# Altium footprint library 0x2a002a.PcbLib: 24 footprints (part 2 of 2)
Each footprint in its own frame and in the unit in brackets; x right, y up, seen from the top. Pads: shape width x height; smd on the part's side, far side on the other; paste and mask are expansions set on the pad; w line width, h text height; cw(c..) or ccw(c..) is an arc to the next point about the centre after c.
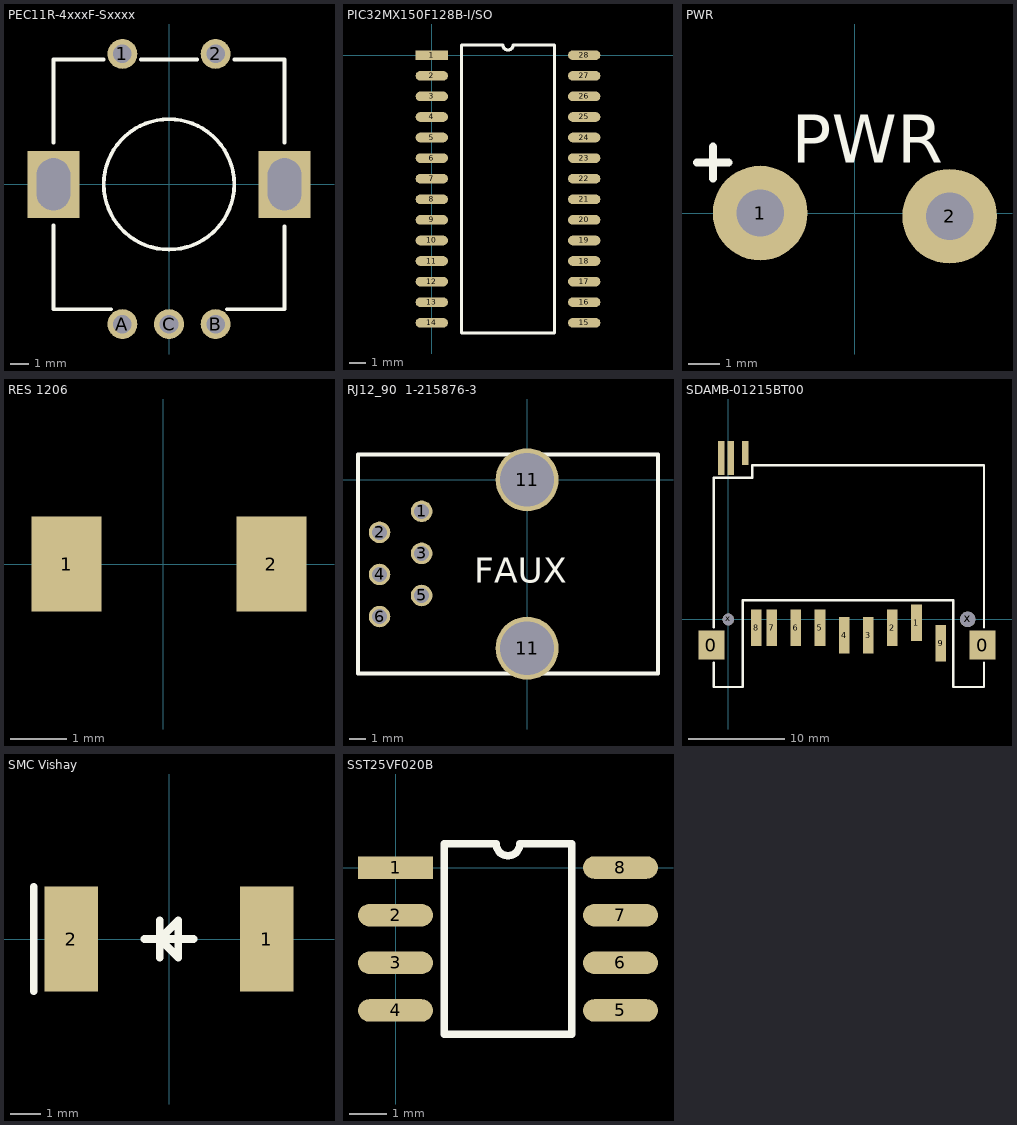
[diagram p1: the footprints below, top view; thin cyan lines are the x and y axes]

## PEC11R-4xxxF-Sxxxx [mm]
pads (7):
  round 1.6 hole 1: 1(-2.5,7) 2(2.5,7) A(-2.5,-7.5) B(2.5,-7.5) C(0,-7.5)
  rect 2.8x3.6 hole 1.8 slot 2.8 at 90 deg: ""(-6.2,0) ""(6.2,0)
Top Overlay:
  circle w0.2: c0,0 r3.5
  lines w0.2: -6.2,-2.2 -6.2,-6.7 -3.1,-6.7 ; -6.2,2.225 -6.2,6.7 -3.5,6.7 ; -1.5,6.7 1.5,6.7 ; 3.1,-6.7 6.2,-6.7 6.2,-2.25 ; 3.5,6.7 6.2,6.7 6.2,2.25

## PIC32MX150F128B-I/SO [mm]
pads (28):
  rect 2x0.6 smd: 1(0,0)
  oval 2x0.6 smd: 2(0,-1.27) 3(0,-2.54) 4(0,-3.81) 5(0,-5.08) 6(0,-6.35) 7(0,-7.62) 8(0,-8.89) 9(0,-10.16) 10(0,-11.43) 11(0,-12.7) 12(0,-13.97) 13(0,-15.24) 14(0,-16.51) 15(9.4,-16.51) 16(9.4,-15.24) 17(9.4,-13.97) 18(9.4,-12.7) 19(9.4,-11.43) 20(9.4,-10.16) 21(9.4,-8.89) 22(9.4,-7.62) 23(9.4,-6.35) 24(9.4,-5.08) 25(9.4,-3.81) 26(9.4,-2.54) 27(9.4,-1.27) 28(9.4,0)
Top Overlay:
  lines w0.2: 1.835,-17.145 7.565,-17.145 7.565,0.635 5.017,0.635 cw(c4.7,0.635) 4.382,0.635 1.835,0.635 1.835,-17.145

## PWR [mm]
pads (2):
  round 3 hole 1.5: 1(-3,0) 2(3,-0.1)
Top Overlay:
  lines w0.254: -5,1.6 -4,1.6 ; -4.5,1.1 -4.5,2.1
  text "PWR" at -2,1.6 h1.52

## RES 1206 [mm]
pads (2):
  rect 1.25x1.7 smd: 1(-1.725,0) 2(1.925,0)

## RJ12_90  1-215876-3 [mm]
pads (8):
  round 1.3 hole 0.9: 1(-6.36,-1.9) 2(-8.9,-3.17) 3(-6.36,-4.44) 4(-8.9,-5.71) 5(-6.36,-6.98) 6(-8.9,-8.25)
  round 3.8 hole 3.25: 11(0,-10.16) 11(0,0)
Top Overlay:
  lines w0.254: -10.2,-11.68 -10.2,1.52 7.9,1.52 7.9,-11.68 -10.2,-11.68
  text "FAUX" at -3.2,-6.2 h1.52

## SDAMB-01215BT00 [mm]
pads (16):
  rect 2.7x3 smd: 0(-1.75,-2.65) 0(26.35,-2.65)
  rect 1.1x3.79 smd: 1(19.5,-0.35) 2(17,-0.85) 3(14.5,-1.65) 4(12,-1.65) 5(9.5,-0.85) 6(7,-0.85) 7(4.5,-0.85) 8(2.9,-0.85) 9(22,-2.45)
  rect 0.65x3.5 smd: S1(0.25,16.75) S2(-0.75,16.75)
  rect 0.7x2.5 smd: S3(1.75,17.25)
  round 1.2 hole 1.2: x(0,0)
  round 1.6 hole 1.6: x(24.8,0)
Top Overlay:
  lines w0.254: -1.5,-4.5 -1.5,-7 1.5,-7 1.5,2 11,2 15.5,2 18.2,2 23.3,2 23.3,-0.2 23.3,-7 26.5,-7 26.5,-4.5 ; -1.5,-0.8 -1.5,14.7 2.5,14.7 2.5,16 ; 2.6,16 2.5,16 ; 26.5,-0.8 26.5,16 2.5,16

## SMC Vishay [mm]
pads (2):
  rect 1.75x3.4 smd: 1(3.18,0) 2(-3.18,0)
Top Overlay:
  lines w0.254: -4.4,-1.7 -4.4,1.7 ; -0.8,0 0.8,0 ; -0.3,-0.6 -0.3,0.6 ; -0.3,0 0.3,0.6 0.3,-0.6 -0.2,-0.1

## SST25VF020B [mm]
pads (8):
  rect 2x0.6 smd: 1(0,0)
  oval 2x0.6 smd: 2(0,-1.27) 3(0,-2.54) 4(0,-3.81) 5(6,-3.81) 6(6,-2.54) 7(6,-1.27) 8(6,0)
Top Overlay:
  lines w0.2: 1.3,-4.445 4.7,-4.445 4.7,0.635 3.317,0.635 cw(c3,0.635) 2.682,0.635 1.3,0.635 1.3,-1.17 1.3,-3.71 1.3,-4.445